# EAGLE library part OV7660FSL_CON (library stan)
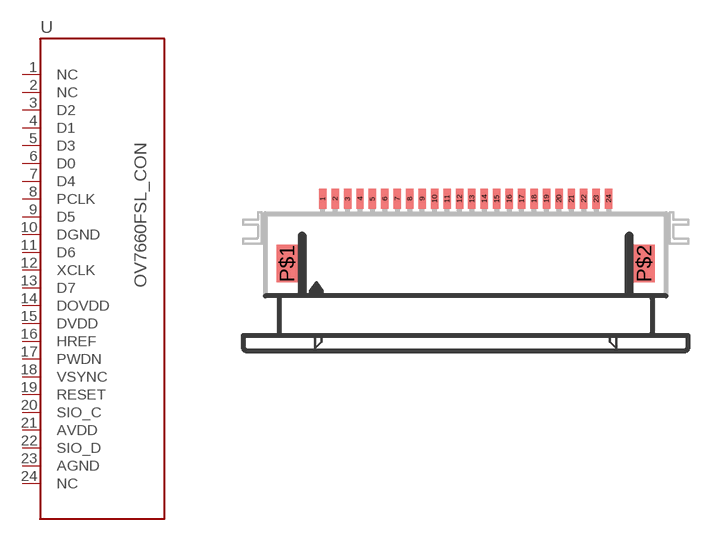
[diagram p10: symbol with the pads of MOLEX-52740-2490; footprint MOLEX-52740-2490]

Designator prefix -

## OV7660FSL_CON-24  [MOLEX-52740-2490]
1  NC
2  NC
3  D2
4  D1
5  D3
6  D0
7  D4
8  PCLK
9  D5
10  DGND
11  D6
12  XCLK
13  D7
14  DOVDD
15  DVDD
16  HREF
17  PWDN
18  VSYNC
19  RESET
20  SIO_C
21  AVDD
22  SIO_D
23  AGND
24  NC

## Footprint MOLEX-52740-2490 (pad centres in mm)
smd 0.3 x 0.8: 1 -5.75,2.5; 2 -5.25,2.5; 3 -4.75,2.5; 4 -4.25,2.5; 5 -3.75,2.5; 6 -3.25,2.5; 7 -2.75,2.5; 8 -2.25,2.5; 9 -1.75,2.5; 10 -1.25,2.5; 11 -0.75,2.5; 12 -0.25,2.5; 13 0.25,2.5; 14 0.75,2.5; 15 1.25,2.5; 16 1.75,2.5; 17 2.25,2.5; 18 2.75,2.5; 19 3.25,2.5; 20 3.75,2.5; 21 4.25,2.5; 22 4.75,2.5; 23 5.25,2.5; 24 5.75,2.5
smd 0.85 x 1.5: P$1 -7.18,-0.1; P$2 7.18,-0.1